# Altium integrated library TI Amplifiers and Linear Special Function Amplifier.IntLib: 708 symbols (part 22 of 47)
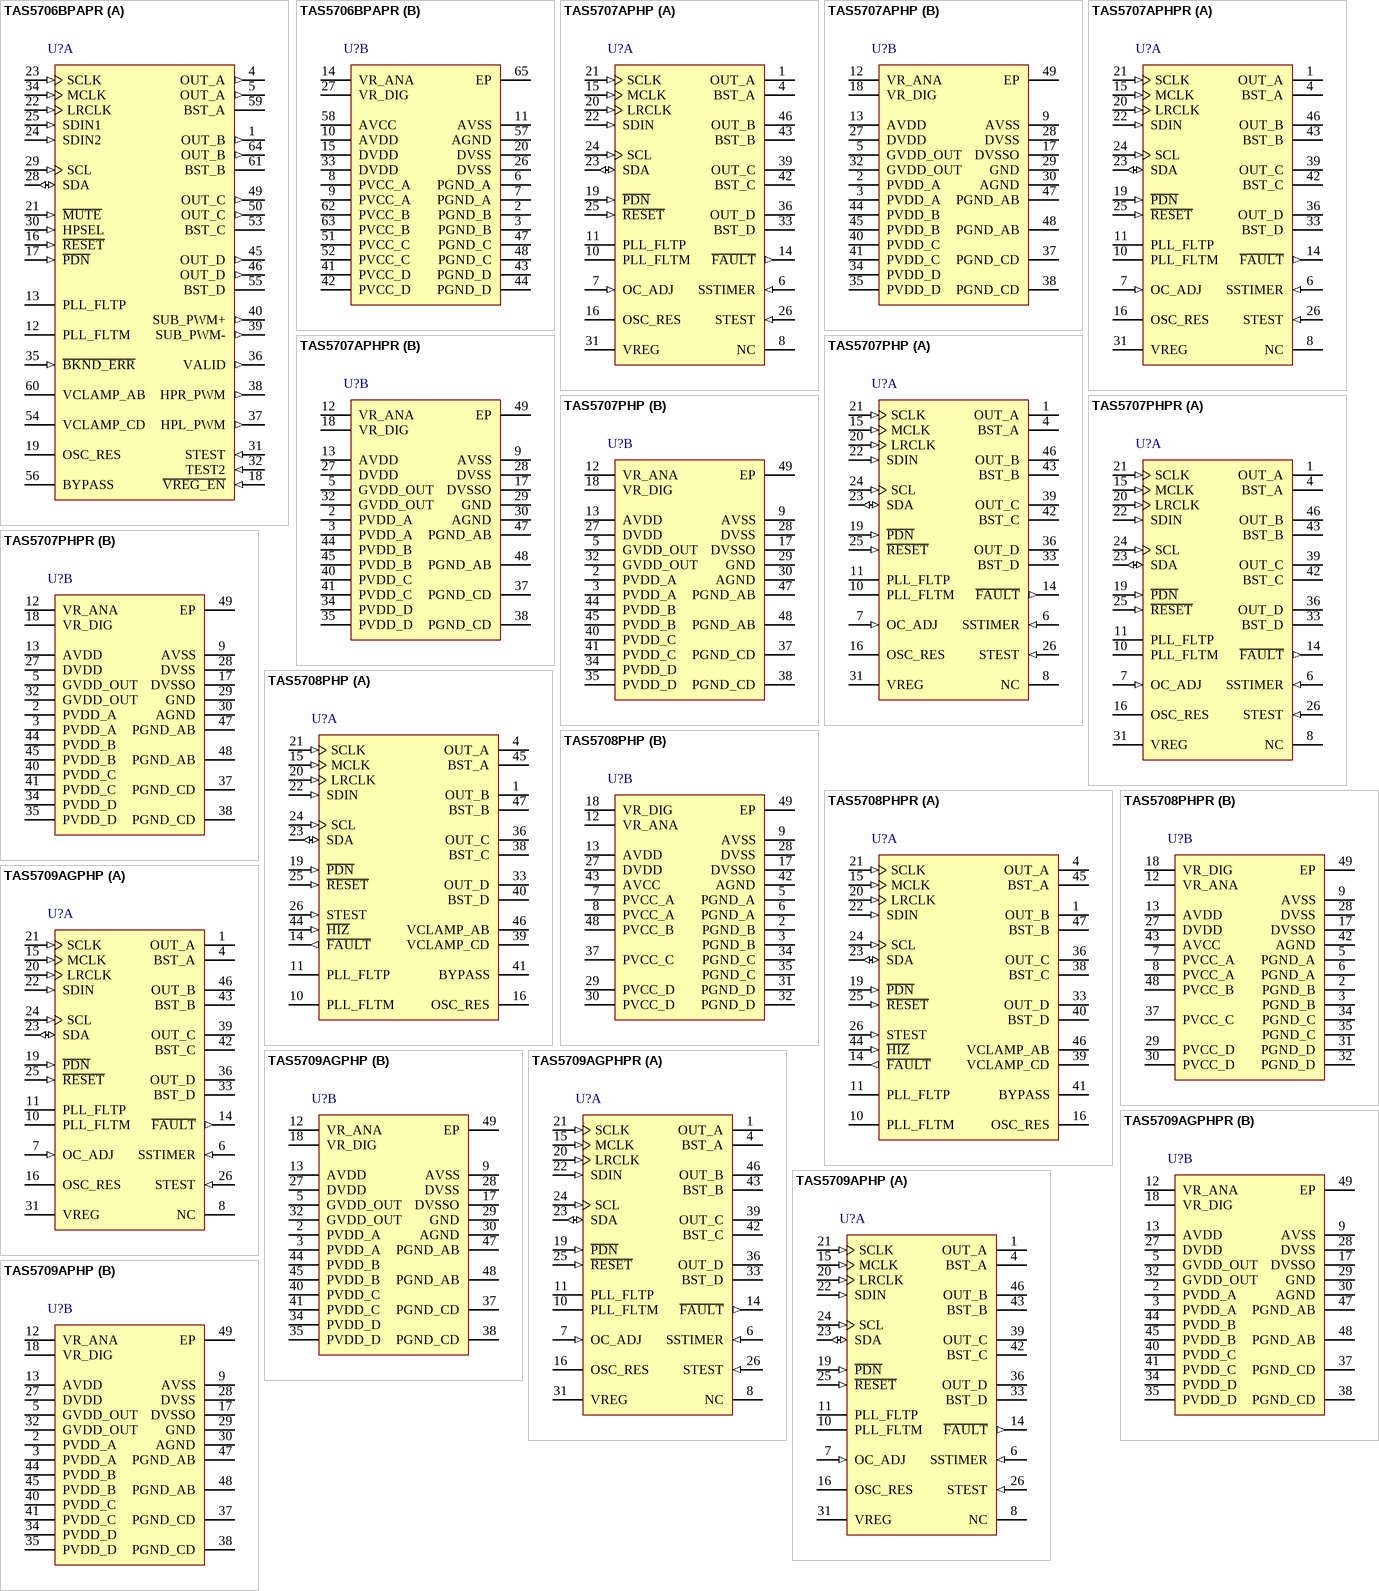
[diagram p60: symbols TAS5706BPAPR to TAS5709APHP]

## TAS5709AGPHPR
designator U?
20 W Stereo I2S Audio Amplifier with Speaker EQ and 2-Band DRC, 0 to 85 degC, 48-pin QFP (PHP48), Green (RoHS & no Sb/Br); Manufacturer: Texas Instruments; PartNumber: TAS5709AGPHPR; Analog Supply Max [V]: 3.6; Analog Supply Min [V]: 3; Input Type: Digital; Max. Number of Speaker Outputs: 2; SubFamily: Mid/High-Power Amplifier; DatasheetVersion: SLOS599A; PackageVersion: 4146927/B, 08/2003; PackageReference: PHP48-4550X3600TP; PackageDescription: 48-Pin PowerPAD(TM) Plastic Quad Flatpack, Body 7 x 7 mm, Pitch 0.5 mm; Supplier 1: Mouser; Supplier Part Number 1: N/A; Digital Supply Min [V]: 3; Eco-Plan: Green (RoHS & no Sb/Br); Mounting Technology: Surface Mount; Code_JEDEC: MS-026; ComponentLink1Description: Manufacturer URL; ComponentLink1URL: http://www.ti.com/; ComponentLink2Description: Datasheet; ComponentLink2URL: http://www.ti.com/general/docs/lit/getliterature.tsp?genericPartNumber=TAS5709A&fileType=pdf; ComponentLink3Description: Package Specification; ComponentLink3URL: http://www.ti.com/litv/pdf/mpdi001b
footprint TI-PHP48-4550X3600TP_N (QFP, 48-Leads, Body 7x7mm, Pitch 0.5mm, Thermal Pad 5.17x4.04mm, IPC Medium Density)
footprint TI-PHP48-4550X3600TP_L (QFP, 48-Leads, Body 7x7mm, Pitch 0.5mm, Thermal Pad 5.17x4.04mm, IPC High Density)
footprint TI-PHP48-4550X3600TP_M (QFP, 48-Leads, Body 7x7mm, Pitch 0.5mm, Thermal Pad 5.17x4.04mm, IPC Low Density)
part A pins: 1 OUT_A (hiz) "Output, half-bridge A", 4 BST_A "High-side bootstrap supply for half-bridge A", 6 SSTIMER (in) "Controls ramp time of OUT_X to minimize pop. Leave this pin floating for BD mode. Requires capacitor of 2.2 nF to GND in AD mode. The capacitor determines the ramp time.", 7 OC_ADJ (in) "Analog overcurrent programming. Requires resistor to ground.", 8 NC "No connection", 10 PLL_FLTM "PLL negative loop filter terminal", 11 PLL_FLTP "PLL positive loop filter terminal", 14 ~{FAULT} (out) "Backend error indicator. Asserted LOW for over temperature, over current, over voltage, and under voltage error conditions. De-asserted upon recovery from error condition.", 15 MCLK (in) "Master clock input", 16 OSC_RES "Oscillator trim resistor. Connect an 18.2-kohm 1% resistor to DVSSO.", 19 ~{PDN} (in) "Power down, active-low. P\D\N\ prepares the device for loss of power supplies by shutting down the noise shaper and initiating PWM stop sequence.", 20 LRCLK (in) "Input serial audio data left/right clock (sample rate clock)", 21 SCLK (in) "Serial audio data clock (shift clock). SCLK is the serial audio port input data bit clock.", 22 SDIN (in) "Serial audio data input. SDIN supports three discrete (stereo) data formats.", 23 SDA (io) "I2C serial control data interface input/output", 24 SCL (in) "I2C serial control clock input", 25 ~{RESET} (in) "Reset, active-low. A system reset is generated by applying a logic low to this pin. R\E\S\E\T\ is an asynchronous control signal that restores the DAP to its default conditions, and places the PWM in the hard mute state (See Datasheet)", 26 STEST (in) "Factory test pin. Connect directly to DVSS.", 31 VREG "Digital regulator output. Not to be used for powering external circuitry.", 33 BST_D "High-side bootstrap supply for half-bridge D", 36 OUT_D (hiz) "Output, half-bridge D", 39 OUT_C (hiz) "Output, half-bridge C", 42 BST_C "High-side bootstrap supply for half-bridge C", 43 BST_B "High-side bootstrap supply for half-bridge B", 46 OUT_B (hiz) "Output, half-bridge B"
part B pins: 2 PVDD_A (power) "Power supply input for half-bridge output A", 3 PVDD_A (power) "Power supply input for half-bridge output A", 5 GVDD_OUT (power) "Gate drive internal regulator output", 9 AVSS (power) "Analog 3.3-V supply ground", 12 VR_ANA (power) "Internally regulated 1.8-V analog supply voltage. This pin must not be used to power external devices.", 13 AVDD (power) "3.3-V analog power supply", 17 DVSSO (power) "Oscillator ground", 18 VR_DIG (power) "Internally regulated 1.8-V digital supply voltage. This pin must not be used to power external devices.", 27 DVDD (power) "3.3-V digital power supply", 28 DVSS (power) "Digital ground", 29 GND (power) "Analog ground for power stage", 30 AGND (power) "Analog ground for power stage", 32 GVDD_OUT (power) "Gate drive internal regulator output", 34 PVDD_D (power) "Power supply input for half-bridge output D", 35 PVDD_D (power) "Power supply input for half-bridge output D", 37 PGND_CD (power) "Power ground for half-bridges C and D", 38 PGND_CD (power) "Power ground for half-bridges C and D", 40 PVDD_C (power) "Power supply input for half-bridge output C", 41 PVDD_C (power) "Power supply input for half-bridge output C", 44 PVDD_B (power) "Power supply input for half-bridge output B", 45 PVDD_B (power) "Power supply input for half-bridge output B", 47 PGND_AB (power) "Power ground for half-bridges A and B", 48 PGND_AB (power) "Power ground for half-bridges A and B", 49 EP

## TAS5709APHP
designator U?
20 W Stereo I2S Audio Amplifier with Speaker EQ and 2-Band DRC, 0 to 85 degC, 48-pin QFP (PHP48), Green (RoHS & no Sb/Br); Manufacturer: Texas Instruments; PartNumber: TAS5709APHP; Analog Supply Max [V]: 3.6; Analog Supply Min [V]: 3; Input Type: Digital; Max. Number of Speaker Outputs: 2; SubFamily: Mid/High-Power Amplifier; DatasheetVersion: SLOS599A; PackageVersion: 4146927/B, 08/2003; PackageReference: PHP48-4550X3600TP; PackageDescription: 48-Pin PowerPAD(TM) Plastic Quad Flatpack, Body 7 x 7 mm, Pitch 0.5 mm; Supplier 1: Digi-Key; Supplier Part Number 1: TAS5709APHP-ND; Supplier 2: Mouser; Supplier Part Number 2: 595-TAS5709APHP; Digital Supply Min [V]: 3; Eco-Plan: Green (RoHS & no Sb/Br); Mounting Technology: Surface Mount; Code_JEDEC: MS-026; ComponentLink1Description: Manufacturer URL; ComponentLink1URL: http://www.ti.com/; ComponentLink2Description: Datasheet; ComponentLink2URL: http://www.ti.com/general/docs/lit/getliterature.tsp?genericPartNumber=TAS5709A&fileType=pdf; ComponentLink3Description: Package Specification; ComponentLink3URL: http://www.ti.com/litv/pdf/mpdi001b
footprint TI-PHP48-4550X3600TP_N (QFP, 48-Leads, Body 7x7mm, Pitch 0.5mm, Thermal Pad 5.17x4.04mm, IPC Medium Density)
footprint TI-PHP48-4550X3600TP_L (QFP, 48-Leads, Body 7x7mm, Pitch 0.5mm, Thermal Pad 5.17x4.04mm, IPC High Density)
footprint TI-PHP48-4550X3600TP_M (QFP, 48-Leads, Body 7x7mm, Pitch 0.5mm, Thermal Pad 5.17x4.04mm, IPC Low Density)
part A pins: 1 OUT_A (hiz) "Output, half-bridge A", 4 BST_A "High-side bootstrap supply for half-bridge A", 6 SSTIMER (in) "Controls ramp time of OUT_X to minimize pop. Leave this pin floating for BD mode. Requires capacitor of 2.2 nF to GND in AD mode. The capacitor determines the ramp time.", 7 OC_ADJ (in) "Analog overcurrent programming. Requires resistor to ground.", 8 NC "No connection", 10 PLL_FLTM "PLL negative loop filter terminal", 11 PLL_FLTP "PLL positive loop filter terminal", 14 ~{FAULT} (out) "Backend error indicator. Asserted LOW for over temperature, over current, over voltage, and under voltage error conditions. De-asserted upon recovery from error condition.", 15 MCLK (in) "Master clock input", 16 OSC_RES "Oscillator trim resistor. Connect an 18.2-kohm 1% resistor to DVSSO.", 19 ~{PDN} (in) "Power down, active-low. P\D\N\ prepares the device for loss of power supplies by shutting down the noise shaper and initiating PWM stop sequence.", 20 LRCLK (in) "Input serial audio data left/right clock (sample rate clock)", 21 SCLK (in) "Serial audio data clock (shift clock). SCLK is the serial audio port input data bit clock.", 22 SDIN (in) "Serial audio data input. SDIN supports three discrete (stereo) data formats.", 23 SDA (io) "I2C serial control data interface input/output", 24 SCL (in) "I2C serial control clock input", 25 ~{RESET} (in) "Reset, active-low. A system reset is generated by applying a logic low to this pin. R\E\S\E\T\ is an asynchronous control signal that restores the DAP to its default conditions, and places the PWM in the hard mute state (See Datasheet)", 26 STEST (in) "Factory test pin. Connect directly to DVSS.", 31 VREG "Digital regulator output. Not to be used for powering external circuitry.", 33 BST_D "High-side bootstrap supply for half-bridge D", 36 OUT_D (hiz) "Output, half-bridge D", 39 OUT_C (hiz) "Output, half-bridge C", 42 BST_C "High-side bootstrap supply for half-bridge C", 43 BST_B "High-side bootstrap supply for half-bridge B", 46 OUT_B (hiz) "Output, half-bridge B"
part B pins: 2 PVDD_A (power) "Power supply input for half-bridge output A", 3 PVDD_A (power) "Power supply input for half-bridge output A", 5 GVDD_OUT (power) "Gate drive internal regulator output", 9 AVSS (power) "Analog 3.3-V supply ground", 12 VR_ANA (power) "Internally regulated 1.8-V analog supply voltage. This pin must not be used to power external devices.", 13 AVDD (power) "3.3-V analog power supply", 17 DVSSO (power) "Oscillator ground", 18 VR_DIG (power) "Internally regulated 1.8-V digital supply voltage. This pin must not be used to power external devices.", 27 DVDD (power) "3.3-V digital power supply", 28 DVSS (power) "Digital ground", 29 GND (power) "Analog ground for power stage", 30 AGND (power) "Analog ground for power stage", 32 GVDD_OUT (power) "Gate drive internal regulator output", 34 PVDD_D (power) "Power supply input for half-bridge output D", 35 PVDD_D (power) "Power supply input for half-bridge output D", 37 PGND_CD (power) "Power ground for half-bridges C and D", 38 PGND_CD (power) "Power ground for half-bridges C and D", 40 PVDD_C (power) "Power supply input for half-bridge output C", 41 PVDD_C (power) "Power supply input for half-bridge output C", 44 PVDD_B (power) "Power supply input for half-bridge output B", 45 PVDD_B (power) "Power supply input for half-bridge output B", 47 PGND_AB (power) "Power ground for half-bridges A and B", 48 PGND_AB (power) "Power ground for half-bridges A and B", 49 EP

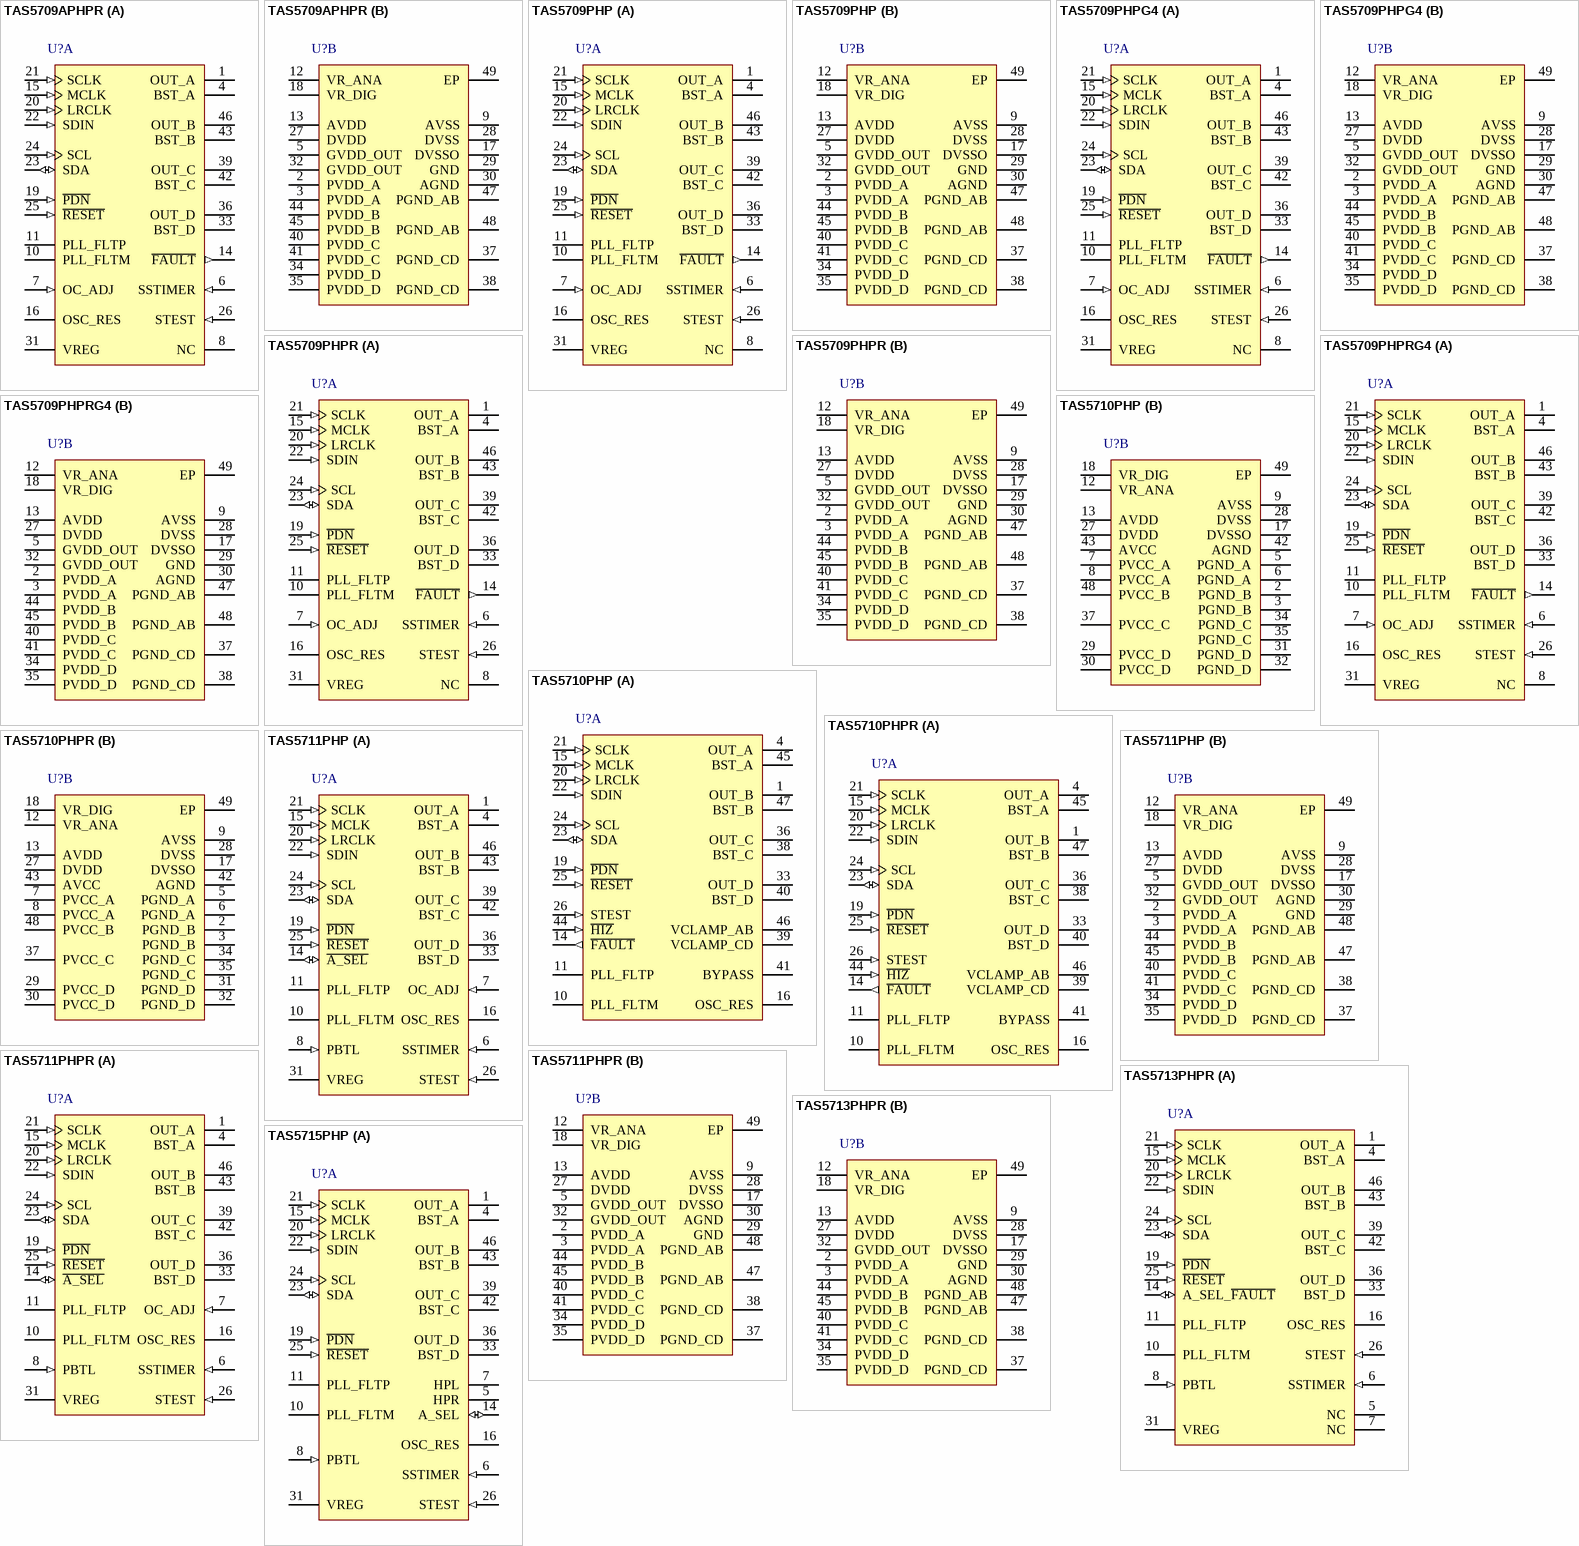
[diagram p21: symbols TAS5709APHPR to TAS5715PHP]

## TAS5709APHPR
designator U?
20 W Stereo I2S Audio Amplifier with Speaker EQ and 2-Band DRC, 0 to 85 degC, 48-pin QFP (PHP48), Green (RoHS & no Sb/Br); Manufacturer: Texas Instruments; PartNumber: TAS5709APHPR; Analog Supply Max [V]: 3.6; Analog Supply Min [V]: 3; Input Type: Digital; Max. Number of Speaker Outputs: 2; SubFamily: Mid/High-Power Amplifier; DatasheetVersion: SLOS599A; PackageVersion: 4146927/B, 08/2003; PackageReference: PHP48-4550X3600TP; PackageDescription: 48-Pin PowerPAD(TM) Plastic Quad Flatpack, Body 7 x 7 mm, Pitch 0.5 mm; Supplier 1: Digi-Key; Supplier Part Number 1: 296-25493-2-ND; Supplier 2: Digi-Key; Supplier Part Number 2: 296-25493-1-ND; Supplier 3: Digi-Key; Supplier Part Number 3: 296-25493-6-ND; Supplier 4: Mouser; Supplier Part Number 4: 595-TAS5709APHPR; Digital Supply Min [V]: 3; Eco-Plan: Green (RoHS & no Sb/Br); Mounting Technology: Surface Mount; Code_JEDEC: MS-026; ComponentLink1Description: Manufacturer URL; ComponentLink1URL: http://www.ti.com/; ComponentLink2Description: Datasheet; ComponentLink2URL: http://www.ti.com/general/docs/lit/getliterature.tsp?genericPartNumber=TAS5709A&fileType=pdf; ComponentLink3Description: Package Specification; ComponentLink3URL: http://www.ti.com/litv/pdf/mpdi001b
footprint TI-PHP48-4550X3600TP_N (QFP, 48-Leads, Body 7x7mm, Pitch 0.5mm, Thermal Pad 5.17x4.04mm, IPC Medium Density)
footprint TI-PHP48-4550X3600TP_L (QFP, 48-Leads, Body 7x7mm, Pitch 0.5mm, Thermal Pad 5.17x4.04mm, IPC High Density)
footprint TI-PHP48-4550X3600TP_M (QFP, 48-Leads, Body 7x7mm, Pitch 0.5mm, Thermal Pad 5.17x4.04mm, IPC Low Density)
part A pins: 1 OUT_A (hiz) "Output, half-bridge A", 4 BST_A "High-side bootstrap supply for half-bridge A", 6 SSTIMER (in) "Controls ramp time of OUT_X to minimize pop. Leave this pin floating for BD mode. Requires capacitor of 2.2 nF to GND in AD mode. The capacitor determines the ramp time.", 7 OC_ADJ (in) "Analog overcurrent programming. Requires resistor to ground.", 8 NC "No connection", 10 PLL_FLTM "PLL negative loop filter terminal", 11 PLL_FLTP "PLL positive loop filter terminal", 14 ~{FAULT} (out) "Backend error indicator. Asserted LOW for over temperature, over current, over voltage, and under voltage error conditions. De-asserted upon recovery from error condition.", 15 MCLK (in) "Master clock input", 16 OSC_RES "Oscillator trim resistor. Connect an 18.2-kohm 1% resistor to DVSSO.", 19 ~{PDN} (in) "Power down, active-low. P\D\N\ prepares the device for loss of power supplies by shutting down the noise shaper and initiating PWM stop sequence.", 20 LRCLK (in) "Input serial audio data left/right clock (sample rate clock)", 21 SCLK (in) "Serial audio data clock (shift clock). SCLK is the serial audio port input data bit clock.", 22 SDIN (in) "Serial audio data input. SDIN supports three discrete (stereo) data formats.", 23 SDA (io) "I2C serial control data interface input/output", 24 SCL (in) "I2C serial control clock input", 25 ~{RESET} (in) "Reset, active-low. A system reset is generated by applying a logic low to this pin. R\E\S\E\T\ is an asynchronous control signal that restores the DAP to its default conditions, and places the PWM in the hard mute state (See Datasheet)", 26 STEST (in) "Factory test pin. Connect directly to DVSS.", 31 VREG "Digital regulator output. Not to be used for powering external circuitry.", 33 BST_D "High-side bootstrap supply for half-bridge D", 36 OUT_D (hiz) "Output, half-bridge D", 39 OUT_C (hiz) "Output, half-bridge C", 42 BST_C "High-side bootstrap supply for half-bridge C", 43 BST_B "High-side bootstrap supply for half-bridge B", 46 OUT_B (hiz) "Output, half-bridge B"
part B pins: 2 PVDD_A (power) "Power supply input for half-bridge output A", 3 PVDD_A (power) "Power supply input for half-bridge output A", 5 GVDD_OUT (power) "Gate drive internal regulator output", 9 AVSS (power) "Analog 3.3-V supply ground", 12 VR_ANA (power) "Internally regulated 1.8-V analog supply voltage. This pin must not be used to power external devices.", 13 AVDD (power) "3.3-V analog power supply", 17 DVSSO (power) "Oscillator ground", 18 VR_DIG (power) "Internally regulated 1.8-V digital supply voltage. This pin must not be used to power external devices.", 27 DVDD (power) "3.3-V digital power supply", 28 DVSS (power) "Digital ground", 29 GND (power) "Analog ground for power stage", 30 AGND (power) "Analog ground for power stage", 32 GVDD_OUT (power) "Gate drive internal regulator output", 34 PVDD_D (power) "Power supply input for half-bridge output D", 35 PVDD_D (power) "Power supply input for half-bridge output D", 37 PGND_CD (power) "Power ground for half-bridges C and D", 38 PGND_CD (power) "Power ground for half-bridges C and D", 40 PVDD_C (power) "Power supply input for half-bridge output C", 41 PVDD_C (power) "Power supply input for half-bridge output C", 44 PVDD_B (power) "Power supply input for half-bridge output B", 45 PVDD_B (power) "Power supply input for half-bridge output B", 47 PGND_AB (power) "Power ground for half-bridges A and B", 48 PGND_AB (power) "Power ground for half-bridges A and B", 49 EP

## TAS5709PHP
designator U?
20 W Stereo I2S Audio Amplifier with Speaker EQ and 2-Band DRC, 0 to 85 degC, 48-pin QFP (PHP48), Green (RoHS & no Sb/Br); Manufacturer: Texas Instruments; PartNumber: TAS5709PHP; Analog Supply Max [V]: 3.6; Analog Supply Min [V]: 3; Input Type: Digital; Max. Number of Speaker Outputs: 2; SubFamily: Mid/High-Power Amplifier; DatasheetVersion: SLOS599A; PackageVersion: 4146927/B, 08/2003; PackageReference: PHP48-4550X3600TP; PackageDescription: 48-Pin PowerPAD(TM) Plastic Quad Flatpack, Body 7 x 7 mm, Pitch 0.5 mm; Supplier 1: Digi-Key; Supplier Part Number 1: 296-32730-ND; Supplier 2: Mouser; Supplier Part Number 2: 595-TAS5709PHP; Digital Supply Min [V]: 3; Eco-Plan: Green (RoHS & no Sb/Br); Mounting Technology: Surface Mount; Code_JEDEC: MS-026; ComponentLink1Description: Manufacturer URL; ComponentLink1URL: http://www.ti.com/; ComponentLink2Description: Datasheet; ComponentLink2URL: http://www.ti.com/general/docs/lit/getliterature.tsp?genericPartNumber=TAS5709&fileType=pdf; ComponentLink3Description: Package Specification; ComponentLink3URL: http://www.ti.com/litv/pdf/mpdi001b
footprint TI-PHP48-4550X3600TP_N (QFP, 48-Leads, Body 7x7mm, Pitch 0.5mm, Thermal Pad 5.17x4.04mm, IPC Medium Density)
footprint TI-PHP48-4550X3600TP_L (QFP, 48-Leads, Body 7x7mm, Pitch 0.5mm, Thermal Pad 5.17x4.04mm, IPC High Density)
footprint TI-PHP48-4550X3600TP_M (QFP, 48-Leads, Body 7x7mm, Pitch 0.5mm, Thermal Pad 5.17x4.04mm, IPC Low Density)
part A pins: 1 OUT_A (hiz) "Output, half-bridge A", 4 BST_A "High-side bootstrap supply for half-bridge A", 6 SSTIMER (in) "Controls ramp time of OUT_X to minimize pop. Leave this pin floating for BD mode. Requires capacitor of 2.2 nF to GND in AD mode. The capacitor determines the ramp time.", 7 OC_ADJ (in) "Analog overcurrent programming. Requires resistor to ground.", 8 NC "No connection", 10 PLL_FLTM "PLL negative loop filter terminal", 11 PLL_FLTP "PLL positive loop filter terminal", 14 ~{FAULT} (out) "Backend error indicator. Asserted LOW for over temperature, over current, over voltage, and under voltage error conditions. De-asserted upon recovery from error condition.", 15 MCLK (in) "Master clock input", 16 OSC_RES "Oscillator trim resistor. Connect an 18.2-kohm 1% resistor to DVSSO.", 19 ~{PDN} (in) "Power down, active-low. P\D\N\ prepares the device for loss of power supplies by shutting down the noise shaper and initiating PWM stop sequence.", 20 LRCLK (in) "Input serial audio data left/right clock (sample rate clock)", 21 SCLK (in) "Serial audio data clock (shift clock). SCLK is the serial audio port input data bit clock.", 22 SDIN (in) "Serial audio data input. SDIN supports three discrete (stereo) data formats.", 23 SDA (io) "I2C serial control data interface input/output", 24 SCL (in) "I2C serial control clock input", 25 ~{RESET} (in) "Reset, active-low. A system reset is generated by applying a logic low to this pin. R\E\S\E\T\ is an asynchronous control signal that restores the DAP to its default conditions, and places the PWM in the hard mute state (See Datasheet)", 26 STEST (in) "Factory test pin. Connect directly to DVSS.", 31 VREG "Digital regulator output. Not to be used for powering external circuitry.", 33 BST_D "High-side bootstrap supply for half-bridge D", 36 OUT_D (hiz) "Output, half-bridge D", 39 OUT_C (hiz) "Output, half-bridge C", 42 BST_C "High-side bootstrap supply for half-bridge C", 43 BST_B "High-side bootstrap supply for half-bridge B", 46 OUT_B (hiz) "Output, half-bridge B"
part B pins: 2 PVDD_A (power) "Power supply input for half-bridge output A", 3 PVDD_A (power) "Power supply input for half-bridge output A", 5 GVDD_OUT (power) "Gate drive internal regulator output", 9 AVSS (power) "Analog 3.3-V supply ground", 12 VR_ANA (power) "Internally regulated 1.8-V analog supply voltage. This pin must not be used to power external devices.", 13 AVDD (power) "3.3-V analog power supply", 17 DVSSO (power) "Oscillator ground", 18 VR_DIG (power) "Internally regulated 1.8-V digital supply voltage. This pin must not be used to power external devices.", 27 DVDD (power) "3.3-V digital power supply", 28 DVSS (power) "Digital ground", 29 GND (power) "Analog ground for power stage", 30 AGND (power) "Analog ground for power stage", 32 GVDD_OUT (power) "Gate drive internal regulator output", 34 PVDD_D (power) "Power supply input for half-bridge output D", 35 PVDD_D (power) "Power supply input for half-bridge output D", 37 PGND_CD (power) "Power ground for half-bridges C and D", 38 PGND_CD (power) "Power ground for half-bridges C and D", 40 PVDD_C (power) "Power supply input for half-bridge output C", 41 PVDD_C (power) "Power supply input for half-bridge output C", 44 PVDD_B (power) "Power supply input for half-bridge output B", 45 PVDD_B (power) "Power supply input for half-bridge output B", 47 PGND_AB (power) "Power ground for half-bridges A and B", 48 PGND_AB (power) "Power ground for half-bridges A and B", 49 EP

## TAS5709PHPG4
designator U?
20 W Stereo I2S Audio Amplifier with Speaker EQ and 2-Band DRC, 0 to 85 degC, 48-pin QFP (PHP48), Green (RoHS & no Sb/Br); Manufacturer: Texas Instruments; PartNumber: TAS5709PHPG4; Analog Supply Max [V]: 3.6; Analog Supply Min [V]: 3; Input Type: Digital; Max. Number of Speaker Outputs: 2; SubFamily: Mid/High-Power Amplifier; DatasheetVersion: SLOS599A; PackageVersion: 4146927/B, 08/2003; PackageReference: PHP48-4550X3600TP; PackageDescription: 48-Pin PowerPAD(TM) Plastic Quad Flatpack, Body 7 x 7 mm, Pitch 0.5 mm; Supplier 1: Digi-Key; Supplier Part Number 1: TAS5709PHPG4-ND; Supplier 2: Mouser; Supplier Part Number 2: 595-TAS5709PHPG4; Digital Supply Min [V]: 3; Eco-Plan: Green (RoHS & no Sb/Br); Mounting Technology: Surface Mount; Code_JEDEC: MS-026; ComponentLink1Description: Manufacturer URL; ComponentLink1URL: http://www.ti.com/; ComponentLink2Description: Datasheet; ComponentLink2URL: http://www.ti.com/general/docs/lit/getliterature.tsp?genericPartNumber=TAS5709&fileType=pdf; ComponentLink3Description: Package Specification; ComponentLink3URL: http://www.ti.com/litv/pdf/mpdi001b
footprint TI-PHP48-4550X3600TP_N (QFP, 48-Leads, Body 7x7mm, Pitch 0.5mm, Thermal Pad 5.17x4.04mm, IPC Medium Density)
footprint TI-PHP48-4550X3600TP_L (QFP, 48-Leads, Body 7x7mm, Pitch 0.5mm, Thermal Pad 5.17x4.04mm, IPC High Density)
footprint TI-PHP48-4550X3600TP_M (QFP, 48-Leads, Body 7x7mm, Pitch 0.5mm, Thermal Pad 5.17x4.04mm, IPC Low Density)
part A pins: 1 OUT_A (hiz) "Output, half-bridge A", 4 BST_A "High-side bootstrap supply for half-bridge A", 6 SSTIMER (in) "Controls ramp time of OUT_X to minimize pop. Leave this pin floating for BD mode. Requires capacitor of 2.2 nF to GND in AD mode. The capacitor determines the ramp time.", 7 OC_ADJ (in) "Analog overcurrent programming. Requires resistor to ground.", 8 NC "No connection", 10 PLL_FLTM "PLL negative loop filter terminal", 11 PLL_FLTP "PLL positive loop filter terminal", 14 ~{FAULT} (out) "Backend error indicator. Asserted LOW for over temperature, over current, over voltage, and under voltage error conditions. De-asserted upon recovery from error condition.", 15 MCLK (in) "Master clock input", 16 OSC_RES "Oscillator trim resistor. Connect an 18.2-kohm 1% resistor to DVSSO.", 19 ~{PDN} (in) "Power down, active-low. P\D\N\ prepares the device for loss of power supplies by shutting down the noise shaper and initiating PWM stop sequence.", 20 LRCLK (in) "Input serial audio data left/right clock (sample rate clock)", 21 SCLK (in) "Serial audio data clock (shift clock). SCLK is the serial audio port input data bit clock.", 22 SDIN (in) "Serial audio data input. SDIN supports three discrete (stereo) data formats.", 23 SDA (io) "I2C serial control data interface input/output", 24 SCL (in) "I2C serial control clock input", 25 ~{RESET} (in) "Reset, active-low. A system reset is generated by applying a logic low to this pin. R\E\S\E\T\ is an asynchronous control signal that restores the DAP to its default conditions, and places the PWM in the hard mute state (See Datasheet)", 26 STEST (in) "Factory test pin. Connect directly to DVSS.", 31 VREG "Digital regulator output. Not to be used for powering external circuitry.", 33 BST_D "High-side bootstrap supply for half-bridge D", 36 OUT_D (hiz) "Output, half-bridge D", 39 OUT_C (hiz) "Output, half-bridge C", 42 BST_C "High-side bootstrap supply for half-bridge C", 43 BST_B "High-side bootstrap supply for half-bridge B", 46 OUT_B (hiz) "Output, half-bridge B"
part B pins: 2 PVDD_A (power) "Power supply input for half-bridge output A", 3 PVDD_A (power) "Power supply input for half-bridge output A", 5 GVDD_OUT (power) "Gate drive internal regulator output", 9 AVSS (power) "Analog 3.3-V supply ground", 12 VR_ANA (power) "Internally regulated 1.8-V analog supply voltage. This pin must not be used to power external devices.", 13 AVDD (power) "3.3-V analog power supply", 17 DVSSO (power) "Oscillator ground", 18 VR_DIG (power) "Internally regulated 1.8-V digital supply voltage. This pin must not be used to power external devices.", 27 DVDD (power) "3.3-V digital power supply", 28 DVSS (power) "Digital ground", 29 GND (power) "Analog ground for power stage", 30 AGND (power) "Analog ground for power stage", 32 GVDD_OUT (power) "Gate drive internal regulator output", 34 PVDD_D (power) "Power supply input for half-bridge output D", 35 PVDD_D (power) "Power supply input for half-bridge output D", 37 PGND_CD (power) "Power ground for half-bridges C and D", 38 PGND_CD (power) "Power ground for half-bridges C and D", 40 PVDD_C (power) "Power supply input for half-bridge output C", 41 PVDD_C (power) "Power supply input for half-bridge output C", 44 PVDD_B (power) "Power supply input for half-bridge output B", 45 PVDD_B (power) "Power supply input for half-bridge output B", 47 PGND_AB (power) "Power ground for half-bridges A and B", 48 PGND_AB (power) "Power ground for half-bridges A and B", 49 EP

## TAS5709PHPR
designator U?
20 W Stereo I2S Audio Amplifier with Speaker EQ and 2-Band DRC, 0 to 85 degC, 48-pin QFP (PHP48), Green (RoHS & no Sb/Br); Manufacturer: Texas Instruments; PartNumber: TAS5709PHPR; Analog Supply Max [V]: 3.6; Analog Supply Min [V]: 3; Input Type: Digital; Max. Number of Speaker Outputs: 2; SubFamily: Mid/High-Power Amplifier; DatasheetVersion: SLOS599A; PackageVersion: 4146927/B, 08/2003; PackageReference: PHP48-4550X3600TP; PackageDescription: 48-Pin PowerPAD(TM) Plastic Quad Flatpack, Body 7 x 7 mm, Pitch 0.5 mm; Supplier 1: Digi-Key; Supplier Part Number 1: 296-24671-2-ND; Supplier 2: Digi-Key; Supplier Part Number 2: 296-24671-1-ND; Supplier 3: Digi-Key; Supplier Part Number 3: 296-24671-6-ND; Supplier 4: Mouser; Supplier Part Number 4: 595-TAS5709PHPR; Digital Supply Min [V]: 3; Eco-Plan: Green (RoHS & no Sb/Br); Mounting Technology: Surface Mount; Code_JEDEC: MS-026; ComponentLink1Description: Manufacturer URL; ComponentLink1URL: http://www.ti.com/; ComponentLink2Description: Datasheet; ComponentLink2URL: http://www.ti.com/general/docs/lit/getliterature.tsp?genericPartNumber=TAS5709&fileType=pdf; ComponentLink3Description: Package Specification; ComponentLink3URL: http://www.ti.com/litv/pdf/mpdi001b
footprint TI-PHP48-4550X3600TP_N (QFP, 48-Leads, Body 7x7mm, Pitch 0.5mm, Thermal Pad 5.17x4.04mm, IPC Medium Density)
footprint TI-PHP48-4550X3600TP_L (QFP, 48-Leads, Body 7x7mm, Pitch 0.5mm, Thermal Pad 5.17x4.04mm, IPC High Density)
footprint TI-PHP48-4550X3600TP_M (QFP, 48-Leads, Body 7x7mm, Pitch 0.5mm, Thermal Pad 5.17x4.04mm, IPC Low Density)
part A pins: 1 OUT_A (hiz) "Output, half-bridge A", 4 BST_A "High-side bootstrap supply for half-bridge A", 6 SSTIMER (in) "Controls ramp time of OUT_X to minimize pop. Leave this pin floating for BD mode. Requires capacitor of 2.2 nF to GND in AD mode. The capacitor determines the ramp time.", 7 OC_ADJ (in) "Analog overcurrent programming. Requires resistor to ground.", 8 NC "No connection", 10 PLL_FLTM "PLL negative loop filter terminal", 11 PLL_FLTP "PLL positive loop filter terminal", 14 ~{FAULT} (out) "Backend error indicator. Asserted LOW for over temperature, over current, over voltage, and under voltage error conditions. De-asserted upon recovery from error condition.", 15 MCLK (in) "Master clock input", 16 OSC_RES "Oscillator trim resistor. Connect an 18.2-kohm 1% resistor to DVSSO.", 19 ~{PDN} (in) "Power down, active-low. P\D\N\ prepares the device for loss of power supplies by shutting down the noise shaper and initiating PWM stop sequence.", 20 LRCLK (in) "Input serial audio data left/right clock (sample rate clock)", 21 SCLK (in) "Serial audio data clock (shift clock). SCLK is the serial audio port input data bit clock.", 22 SDIN (in) "Serial audio data input. SDIN supports three discrete (stereo) data formats.", 23 SDA (io) "I2C serial control data interface input/output", 24 SCL (in) "I2C serial control clock input", 25 ~{RESET} (in) "Reset, active-low. A system reset is generated by applying a logic low to this pin. R\E\S\E\T\ is an asynchronous control signal that restores the DAP to its default conditions, and places the PWM in the hard mute state (See Datasheet)", 26 STEST (in) "Factory test pin. Connect directly to DVSS.", 31 VREG "Digital regulator output. Not to be used for powering external circuitry.", 33 BST_D "High-side bootstrap supply for half-bridge D", 36 OUT_D (hiz) "Output, half-bridge D", 39 OUT_C (hiz) "Output, half-bridge C", 42 BST_C "High-side bootstrap supply for half-bridge C", 43 BST_B "High-side bootstrap supply for half-bridge B", 46 OUT_B (hiz) "Output, half-bridge B"
part B pins: 2 PVDD_A (power) "Power supply input for half-bridge output A", 3 PVDD_A (power) "Power supply input for half-bridge output A", 5 GVDD_OUT (power) "Gate drive internal regulator output", 9 AVSS (power) "Analog 3.3-V supply ground", 12 VR_ANA (power) "Internally regulated 1.8-V analog supply voltage. This pin must not be used to power external devices.", 13 AVDD (power) "3.3-V analog power supply", 17 DVSSO (power) "Oscillator ground", 18 VR_DIG (power) "Internally regulated 1.8-V digital supply voltage. This pin must not be used to power external devices.", 27 DVDD (power) "3.3-V digital power supply", 28 DVSS (power) "Digital ground", 29 GND (power) "Analog ground for power stage", 30 AGND (power) "Analog ground for power stage", 32 GVDD_OUT (power) "Gate drive internal regulator output", 34 PVDD_D (power) "Power supply input for half-bridge output D", 35 PVDD_D (power) "Power supply input for half-bridge output D", 37 PGND_CD (power) "Power ground for half-bridges C and D", 38 PGND_CD (power) "Power ground for half-bridges C and D", 40 PVDD_C (power) "Power supply input for half-bridge output C", 41 PVDD_C (power) "Power supply input for half-bridge output C", 44 PVDD_B (power) "Power supply input for half-bridge output B", 45 PVDD_B (power) "Power supply input for half-bridge output B", 47 PGND_AB (power) "Power ground for half-bridges A and B", 48 PGND_AB (power) "Power ground for half-bridges A and B", 49 EP

## TAS5709PHPRG4
designator U?
20 W Stereo I2S Audio Amplifier with Speaker EQ and 2-Band DRC, 0 to 85 degC, 48-pin QFP (PHP48), Green (RoHS & no Sb/Br); Manufacturer: Texas Instruments; PartNumber: TAS5709PHPRG4; Analog Supply Max [V]: 3.6; Analog Supply Min [V]: 3; Input Type: Digital; Max. Number of Speaker Outputs: 2; SubFamily: Mid/High-Power Amplifier; DatasheetVersion: SLOS599A; PackageVersion: 4146927/B, 08/2003; PackageReference: PHP48-4550X3600TP; PackageDescription: 48-Pin PowerPAD(TM) Plastic Quad Flatpack, Body 7 x 7 mm, Pitch 0.5 mm; Supplier 1: Digi-Key; Supplier Part Number 1: TAS5709PHPRG4-ND; Supplier 2: Mouser; Supplier Part Number 2: 595-TAS5709PHPRG4; Digital Supply Min [V]: 3; Eco-Plan: Green (RoHS & no Sb/Br); Mounting Technology: Surface Mount; Code_JEDEC: MS-026; ComponentLink1Description: Manufacturer URL; ComponentLink1URL: http://www.ti.com/; ComponentLink2Description: Datasheet; ComponentLink2URL: http://www.ti.com/general/docs/lit/getliterature.tsp?genericPartNumber=TAS5709&fileType=pdf; ComponentLink3Description: Package Specification; ComponentLink3URL: http://www.ti.com/litv/pdf/mpdi001b
footprint TI-PHP48-4550X3600TP_N (QFP, 48-Leads, Body 7x7mm, Pitch 0.5mm, Thermal Pad 5.17x4.04mm, IPC Medium Density)
footprint TI-PHP48-4550X3600TP_L (QFP, 48-Leads, Body 7x7mm, Pitch 0.5mm, Thermal Pad 5.17x4.04mm, IPC High Density)
footprint TI-PHP48-4550X3600TP_M (QFP, 48-Leads, Body 7x7mm, Pitch 0.5mm, Thermal Pad 5.17x4.04mm, IPC Low Density)
part A pins: 1 OUT_A (hiz) "Output, half-bridge A", 4 BST_A "High-side bootstrap supply for half-bridge A", 6 SSTIMER (in) "Controls ramp time of OUT_X to minimize pop. Leave this pin floating for BD mode. Requires capacitor of 2.2 nF to GND in AD mode. The capacitor determines the ramp time.", 7 OC_ADJ (in) "Analog overcurrent programming. Requires resistor to ground.", 8 NC "No connection", 10 PLL_FLTM "PLL negative loop filter terminal", 11 PLL_FLTP "PLL positive loop filter terminal", 14 ~{FAULT} (out) "Backend error indicator. Asserted LOW for over temperature, over current, over voltage, and under voltage error conditions. De-asserted upon recovery from error condition.", 15 MCLK (in) "Master clock input", 16 OSC_RES "Oscillator trim resistor. Connect an 18.2-kohm 1% resistor to DVSSO.", 19 ~{PDN} (in) "Power down, active-low. P\D\N\ prepares the device for loss of power supplies by shutting down the noise shaper and initiating PWM stop sequence.", 20 LRCLK (in) "Input serial audio data left/right clock (sample rate clock)", 21 SCLK (in) "Serial audio data clock (shift clock). SCLK is the serial audio port input data bit clock.", 22 SDIN (in) "Serial audio data input. SDIN supports three discrete (stereo) data formats.", 23 SDA (io) "I2C serial control data interface input/output", 24 SCL (in) "I2C serial control clock input", 25 ~{RESET} (in) "Reset, active-low. A system reset is generated by applying a logic low to this pin. R\E\S\E\T\ is an asynchronous control signal that restores the DAP to its default conditions, and places the PWM in the hard mute state (See Datasheet)", 26 STEST (in) "Factory test pin. Connect directly to DVSS.", 31 VREG "Digital regulator output. Not to be used for powering external circuitry.", 33 BST_D "High-side bootstrap supply for half-bridge D", 36 OUT_D (hiz) "Output, half-bridge D", 39 OUT_C (hiz) "Output, half-bridge C", 42 BST_C "High-side bootstrap supply for half-bridge C", 43 BST_B "High-side bootstrap supply for half-bridge B", 46 OUT_B (hiz) "Output, half-bridge B"
part B pins: 2 PVDD_A (power) "Power supply input for half-bridge output A", 3 PVDD_A (power) "Power supply input for half-bridge output A", 5 GVDD_OUT (power) "Gate drive internal regulator output", 9 AVSS (power) "Analog 3.3-V supply ground", 12 VR_ANA (power) "Internally regulated 1.8-V analog supply voltage. This pin must not be used to power external devices.", 13 AVDD (power) "3.3-V analog power supply", 17 DVSSO (power) "Oscillator ground", 18 VR_DIG (power) "Internally regulated 1.8-V digital supply voltage. This pin must not be used to power external devices.", 27 DVDD (power) "3.3-V digital power supply", 28 DVSS (power) "Digital ground", 29 GND (power) "Analog ground for power stage", 30 AGND (power) "Analog ground for power stage", 32 GVDD_OUT (power) "Gate drive internal regulator output", 34 PVDD_D (power) "Power supply input for half-bridge output D", 35 PVDD_D (power) "Power supply input for half-bridge output D", 37 PGND_CD (power) "Power ground for half-bridges C and D", 38 PGND_CD (power) "Power ground for half-bridges C and D", 40 PVDD_C (power) "Power supply input for half-bridge output C", 41 PVDD_C (power) "Power supply input for half-bridge output C", 44 PVDD_B (power) "Power supply input for half-bridge output B", 45 PVDD_B (power) "Power supply input for half-bridge output B", 47 PGND_AB (power) "Power ground for half-bridges A and B", 48 PGND_AB (power) "Power ground for half-bridges A and B", 49 EP

## TAS5710PHP
designator U?
20 W Stereo Closed-Loop I2S Audio Amplifier with Speaker EQ and 2-Band DRC, 0 to 85 degC, 48-pin QFP (PHP48), Green (RoHS & no Sb/Br); Manufacturer: Texas Instruments; PartNumber: TAS5710PHP; Analog Supply Max [V]: 3.6; Analog Supply Min [V]: 3; Input Type: Digital; Max. Number of Speaker Outputs: 2; Power Stage Supply Min(V): 10; SubFamily: Mid/High-Power Amplifier; DatasheetVersion: SLOS605; PackageVersion: 4040082/E, 04/2010; PackageReference: PHP48-4785X4785TP; PackageDescription: 48-Pin PowerPAD(TM) Plastic Quad Flatpack, Body 7 x 7 mm, Pitch 0.5 mm; Supplier 1: Digi-Key; Supplier Part Number 1: 296-32731-ND; Supplier 2: Farnell; Supplier Part Number 2: 1710804; Supplier 3: Newark; Supplier Part Number 3: 47P0635; Supplier 4: Mouser; Supplier Part Number 4: 595-TAS5710PHP; Digital Supply Min [V]: 3; Eco-Plan: Green (RoHS & no Sb/Br); Mounting Technology: Through Hole; Code_JEDEC: MS-001; ComponentLink1Description: Manufacturer URL; ComponentLink1URL: http://www.ti.com/; ComponentLink2Description: Datasheet; ComponentLink2URL: http://www.ti.com/general/docs/lit/getliterature.tsp?genericPartNumber=TAS5710&fileType=pdf; ComponentLink3Description: Package Specification; ComponentLink3URL: http://www.ti.com/litv/pdf/mpdi001b
footprint TI-PHP48-4785X4785TP_N (QFP, 48-Leads, Body 7x7mm, Pitch 0.5mm, Thermal Pad 5.39x5.39mm, IPC Medium Density)
footprint TI-PHP48-4785X4785TP_L (QFP, 48-Leads, Body 7x7mm, Pitch 0.5mm, Thermal Pad 5.39x5.39mm, IPC High Density)
footprint TI-PHP48-4785X4785TP_M (QFP, 48-Leads, Body 7x7mm, Pitch 0.5mm, Thermal Pad 5.39x5.39mm, IPC Low Density)
part A pins: 1 OUT_B (hiz) "Output, half-bridge B", 4 OUT_A (hiz) "Output, half-bridge A", 10 PLL_FLTM "PLL negative loop filter terminal", 11 PLL_FLTP "PLL positive loop filter terminal", 14 ~{FAULT} (out) "Backend error indicator. Asserted LOW for over current errors. De-asserted upon recovery from error condition.", 15 MCLK (in) "Master Clock Input", 16 OSC_RES "Oscillator trim resistor. Connect an 18.2-kohm 1% resistor to DVSSO.", 19 ~{PDN} (in) "Power down, active-low. P\D\N\ prepares the device for loss of power supplies by shutting down the Noise Shaper and initiating PWM stop sequence.", 20 LRCLK (in) "Input serial audio data left/right clock (sample rate clock)", 21 SCLK (in) "Serial audio data clock (shift clock). SCLK is the serial audio port input data bit clock.", 22 SDIN (in) "Serial audio data input. SDIN supports three discrete (stereo) data formats.", 23 SDA (io) "I2C serial control data interface input/output", 24 SCL (in) "I2C serial control clock input", 25 ~{RESET} (in) "Reset, active-low. A system reset is generated by applying a logic low to this pin. R\E\S\E\T\ is an asynchronous control signal that restores the DAP to its default conditions, and places the PWM in the hard mute state (See Datasheet)", 26 STEST (in) "Factory test pin. Connect directly to DVSS.", 33 OUT_D (hiz) "Output, half-bridge D", 36 OUT_C (hiz) "Output, half-bridge C", 38 BST_C "High-side bootstrap supply for half-bridge C", 39 VCLAMP_CD "Internally generated voltage supply for channel C and D gate drive.This pin must not be used to power external devices.Connect only to external decoupling capacitor", 40 BST_D "High-side bootstrap supply for half-bridge D", 41 BYPASS "Nominally equal to VCC/8. Internal reference voltage for analog cells", 44 ~{HIZ} (in) "Enable high-impedance (Hi-Z) mode (active low)", 45 BST_A "High-side bootstrap supply for half-bridge A", 46 VCLAMP_AB "Internally generated voltage supply for channel A and B gate drive.This pin must not be used to power external devices.Connect only to external decoupling capacitor", 47 BST_B "High-side bootstrap supply for half-bridge B"
part B pins: 2 PGND_B (power) "Power ground for half-bridge B", 3 PGND_B (power) "Power ground for half-bridge B", 5 PGND_A (power) "Power ground for half-bridge A", 6 PGND_A (power) "Power ground for half-bridge A", 7 PVCC_A (power) "Power supply input for half-bridge output A", 8 PVCC_A (power) "Power supply input for half-bridge output A", 9 AVSS (power) "Analog 3.3-V supply ground", 12 VR_ANA (power) "Internally regulated 1.8-V analog supply voltage. This pin must not be used to power external devices.", 13 AVDD (power) "3.3-V analog power supply", 17 DVSSO (power) "Oscillator Ground", 18 VR_DIG (power) "Internally regulated 1.8-V digital supply voltage. This pin must not be used to power external devices.", 27 DVDD (power) "3.3-V digital power supply", 28 DVSS (power) "Digital ground", 29 PVCC_D (power) "Power supply input for half-bridge output D", 30 PVCC_D (power) "Power supply input for half-bridge output D", 31 PGND_D (power) "Power ground for half-bridge D", 32 PGND_D (power) "Power ground for half-bridge D", 34 PGND_C (power) "Power ground for half-bridge C", 35 PGND_C (power) "Power ground for half-bridge C", 37 PVCC_C (power) "Power supply input for half-bridge output C", 42 AGND (power) "Analog ground for power stage", 43 AVCC (power) "Analog power supply for power stage. Connect externally to same potential as PVCC.", 48 PVCC_B (power) "Power supply input for half-bridge output B", 49 EP

## TAS5710PHPR
designator U?
20 W Stereo Closed-Loop I2S Audio Amplifier with Speaker EQ and 2-Band DRC, 0 to 85 degC, 48-pin QFP (PHP48), Green (RoHS & no Sb/Br); Manufacturer: Texas Instruments; PartNumber: TAS5710PHPR; Analog Supply Max [V]: 3.6; Analog Supply Min [V]: 3; Input Type: Digital; Max. Number of Speaker Outputs: 2; Power Stage Supply Min(V): 10; SubFamily: Mid/High-Power Amplifier; DatasheetVersion: SLOS605; PackageVersion: 4040082/E, 04/2010; PackageReference: PHP48-4785X4785TP; PackageDescription: 48-Pin PowerPAD(TM) Plastic Quad Flatpack, Body 7 x 7 mm, Pitch 0.5 mm; Supplier 1: Digi-Key; Supplier Part Number 1: 296-24127-2-ND; Supplier 2: Digi-Key; Supplier Part Number 2: 296-24127-1-ND; Supplier 3: Digi-Key; Supplier Part Number 3: 296-24127-6-ND; Supplier 4: Mouser; Supplier Part Number 4: 595-TAS5710PHPR; Digital Supply Min [V]: 3; Eco-Plan: Green (RoHS & no Sb/Br); Mounting Technology: Through Hole; Code_JEDEC: MS-001; ComponentLink1Description: Manufacturer URL; ComponentLink1URL: http://www.ti.com/; ComponentLink2Description: Datasheet; ComponentLink2URL: http://www.ti.com/general/docs/lit/getliterature.tsp?genericPartNumber=TAS5710&fileType=pdf; ComponentLink3Description: Package Specification; ComponentLink3URL: http://www.ti.com/litv/pdf/mpdi001b
footprint TI-PHP48-4785X4785TP_N (QFP, 48-Leads, Body 7x7mm, Pitch 0.5mm, Thermal Pad 5.39x5.39mm, IPC Medium Density)
footprint TI-PHP48-4785X4785TP_L (QFP, 48-Leads, Body 7x7mm, Pitch 0.5mm, Thermal Pad 5.39x5.39mm, IPC High Density)
footprint TI-PHP48-4785X4785TP_M (QFP, 48-Leads, Body 7x7mm, Pitch 0.5mm, Thermal Pad 5.39x5.39mm, IPC Low Density)
part A pins: 1 OUT_B (hiz) "Output, half-bridge B", 4 OUT_A (hiz) "Output, half-bridge A", 10 PLL_FLTM "PLL negative loop filter terminal", 11 PLL_FLTP "PLL positive loop filter terminal", 14 ~{FAULT} (out) "Backend error indicator. Asserted LOW for over current errors. De-asserted upon recovery from error condition.", 15 MCLK (in) "Master Clock Input", 16 OSC_RES "Oscillator trim resistor. Connect an 18.2-kohm 1% resistor to DVSSO.", 19 ~{PDN} (in) "Power down, active-low. P\D\N\ prepares the device for loss of power supplies by shutting down the Noise Shaper and initiating PWM stop sequence.", 20 LRCLK (in) "Input serial audio data left/right clock (sample rate clock)", 21 SCLK (in) "Serial audio data clock (shift clock). SCLK is the serial audio port input data bit clock.", 22 SDIN (in) "Serial audio data input. SDIN supports three discrete (stereo) data formats.", 23 SDA (io) "I2C serial control data interface input/output", 24 SCL (in) "I2C serial control clock input", 25 ~{RESET} (in) "Reset, active-low. A system reset is generated by applying a logic low to this pin. R\E\S\E\T\ is an asynchronous control signal that restores the DAP to its default conditions, and places the PWM in the hard mute state (See Datasheet)", 26 STEST (in) "Factory test pin. Connect directly to DVSS.", 33 OUT_D (hiz) "Output, half-bridge D", 36 OUT_C (hiz) "Output, half-bridge C", 38 BST_C "High-side bootstrap supply for half-bridge C", 39 VCLAMP_CD "Internally generated voltage supply for channel C and D gate drive.This pin must not be used to power external devices.Connect only to external decoupling capacitor", 40 BST_D "High-side bootstrap supply for half-bridge D", 41 BYPASS "Nominally equal to VCC/8. Internal reference voltage for analog cells", 44 ~{HIZ} (in) "Enable high-impedance (Hi-Z) mode (active low)", 45 BST_A "High-side bootstrap supply for half-bridge A", 46 VCLAMP_AB "Internally generated voltage supply for channel A and B gate drive.This pin must not be used to power external devices.Connect only to external decoupling capacitor", 47 BST_B "High-side bootstrap supply for half-bridge B"
part B pins: 2 PGND_B (power) "Power ground for half-bridge B", 3 PGND_B (power) "Power ground for half-bridge B", 5 PGND_A (power) "Power ground for half-bridge A", 6 PGND_A (power) "Power ground for half-bridge A", 7 PVCC_A (power) "Power supply input for half-bridge output A", 8 PVCC_A (power) "Power supply input for half-bridge output A", 9 AVSS (power) "Analog 3.3-V supply ground", 12 VR_ANA (power) "Internally regulated 1.8-V analog supply voltage. This pin must not be used to power external devices.", 13 AVDD (power) "3.3-V analog power supply", 17 DVSSO (power) "Oscillator Ground", 18 VR_DIG (power) "Internally regulated 1.8-V digital supply voltage. This pin must not be used to power external devices.", 27 DVDD (power) "3.3-V digital power supply", 28 DVSS (power) "Digital ground", 29 PVCC_D (power) "Power supply input for half-bridge output D", 30 PVCC_D (power) "Power supply input for half-bridge output D", 31 PGND_D (power) "Power ground for half-bridge D", 32 PGND_D (power) "Power ground for half-bridge D", 34 PGND_C (power) "Power ground for half-bridge C", 35 PGND_C (power) "Power ground for half-bridge C", 37 PVCC_C (power) "Power supply input for half-bridge output C", 42 AGND (power) "Analog ground for power stage", 43 AVCC (power) "Analog power supply for power stage. Connect externally to same potential as PVCC.", 48 PVCC_B (power) "Power supply input for half-bridge output B", 49 EP